# Altium schematic symbol library tms320vc5402__2.SchLib: 1 symbol
Pins are listed as number, name and electrical type; pins without a type are passive.

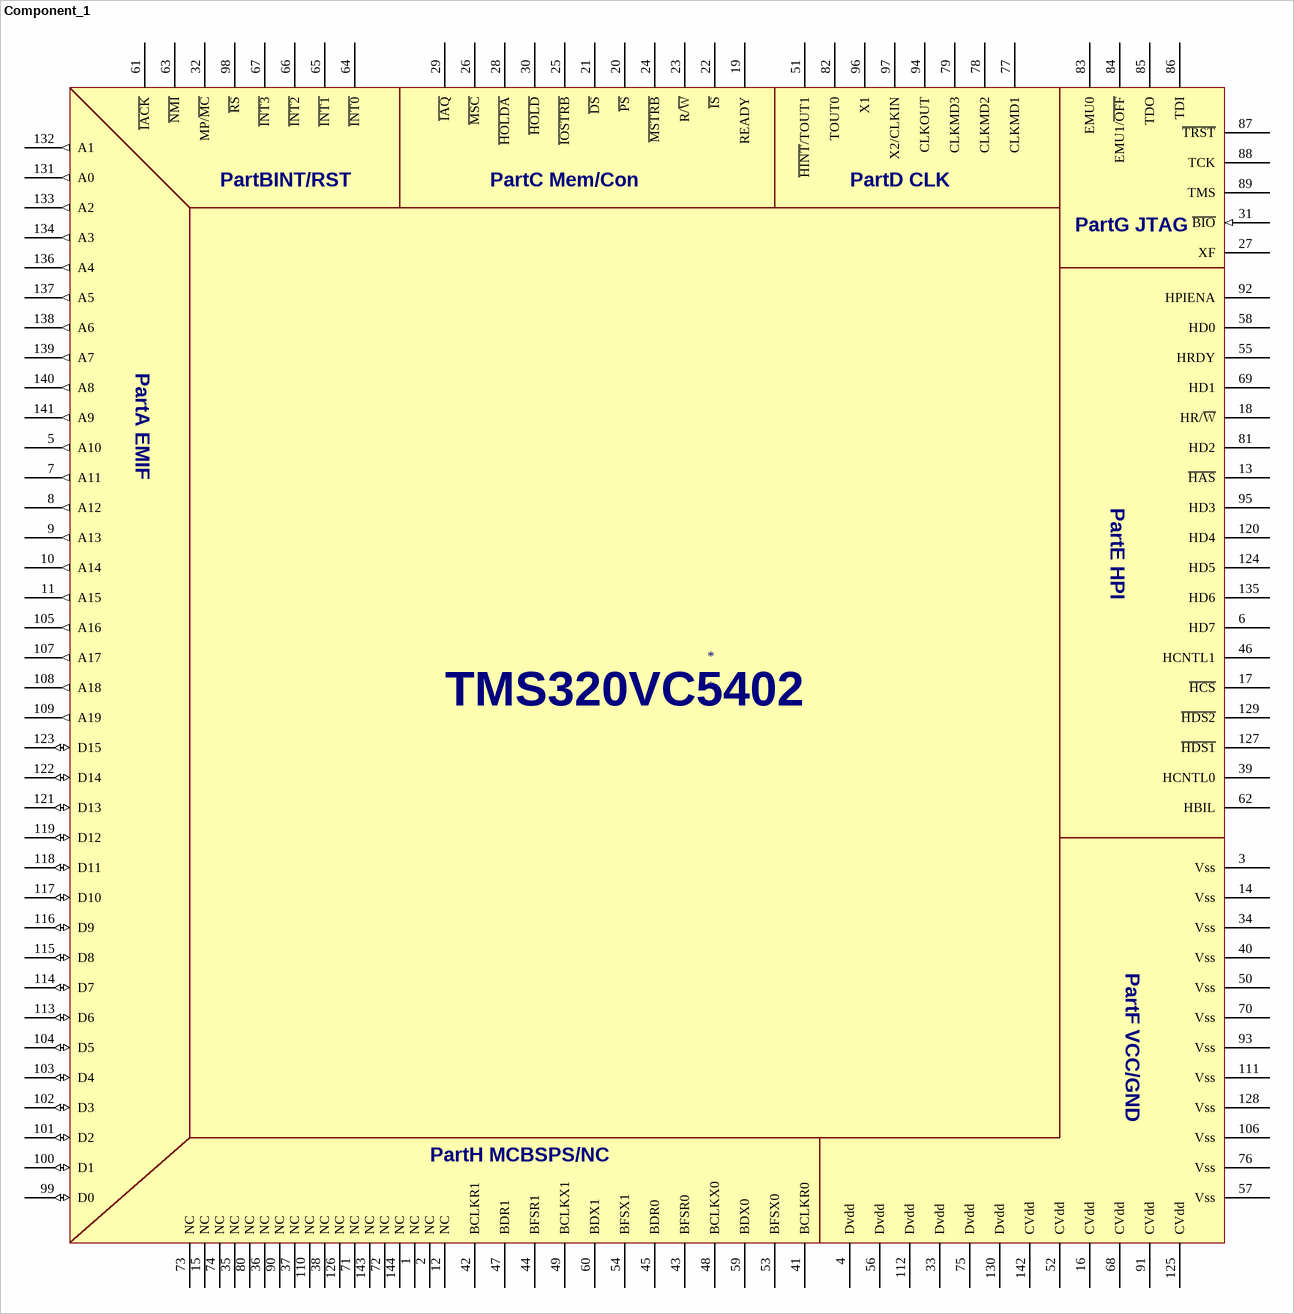
[diagram p0: symbol Component_1]

## Component_1
designator *
pins: 1 NC, 2 NC, 3 Vss, 4 Dvdd, 5 A10 (out), 6 HD7, 7 A11 (out), 8 A12 (out), 9 A13 (out), 10 A14 (out), 11 A15 (out), 12 NC, 13 ~{HAS}, 14 Vss, 15 NC, 16 CVdd, 17 ~{HCS}, 18 HR/~{W}, 19 READY, 20 ~{PS}, 21 ~{DS}, 22 ~{IS}, 23 R/~{W}, 24 ~{MSTRB}, 25 ~{IOSTRB}, 26 ~{MSC}, 27 XF, 28 ~{HOLDA}, 29 ~{IAQ}, 30 ~{HOLD}, 31 ~{BIO} (in), 32 MP/~{MC}, 33 Dvdd, 34 Vss, 35 NC, 36 NC, 37 NC, 38 NC, 39 HCNTL0, 40 Vss, 41 BCLKR0, 42 BCLKR1, 43 BFSR0, 44 BFSR1, 45 BDR0, 46 HCNTL1, 47 BDR1, 48 BCLKX0, 49 BCLKX1, 50 Vss, 51 ~{HINT}/TOUT1, 52 CVdd, 53 BFSX0, 54 BFSX1, 55 HRDY, 56 Dvdd, 57 Vss, 58 HD0, 59 BDX0, 60 BDX1, 61 ~{IACK}, 62 HBIL, 63 ~{NMI}, 64 ~{INT0}, 65 ~{INT1}, 66 ~{INT2}, 67 ~{INT3}, 68 CVdd, 69 HD1, 70 Vss, 71 NC, 72 NC, 73 NC, 74 NC, 75 Dvdd, 76 Vss, 77 CLKMD1, 78 CLKMD2, 79 CLKMD3, 80 NC, 81 HD2, 82 TOUT0, 83 EMU0, 84 EMU1/~{OFF}, 85 TDO, 86 TDI, 87 ~{TRST}, 88 TCK, 89 TMS, 90 NC, 91 CVdd, 92 HPIENA, 93 Vss, 94 CLKOUT, 95 HD3, 96 X1, 97 X2/CLKIN, 98 ~{RS}, 99 D0 (io), 100 D1 (io), 101 D2 (io), 102 D3 (io), 103 D4 (io), 104 D5 (io), 105 A16 (out), 106 Vss, 107 A17 (out), 108 A18 (out), 109 A19 (out), 110 NC, 111 Vss, 112 Dvdd, 113 D6 (io), 114 D7 (io), 115 D8 (io), 116 D9 (io), 117 D10 (io), 118 D11 (io), 119 D12 (io), 120 HD4, 121 D13 (io), 122 D14 (io), 123 D15 (io), 124 HD5, 125 CVdd, 126 NC, 127 ~{HDS1}, 128 Vss, 129 ~{HDS2}, 130 Dvdd, 131 A0 (out), 132 A1 (out), 133 A2 (out), 134 A3 (out), 135 HD6, 136 A4 (out), 137 A5 (out), 138 A6 (out), 139 A7 (out), 140 A8 (out), 141 A9 (out), 142 CVdd, 143 NC, 144 NC
text: PartBINT/RST; PartC Mem/Con; PartD CLK; PartG JTAG; PartA EMIF; PartE HPI; TMS320VC5402; PartF VCC/GND; PartH MCBSPS/NC